# EAGLE library part 8PIN_DIP (library FixLib)
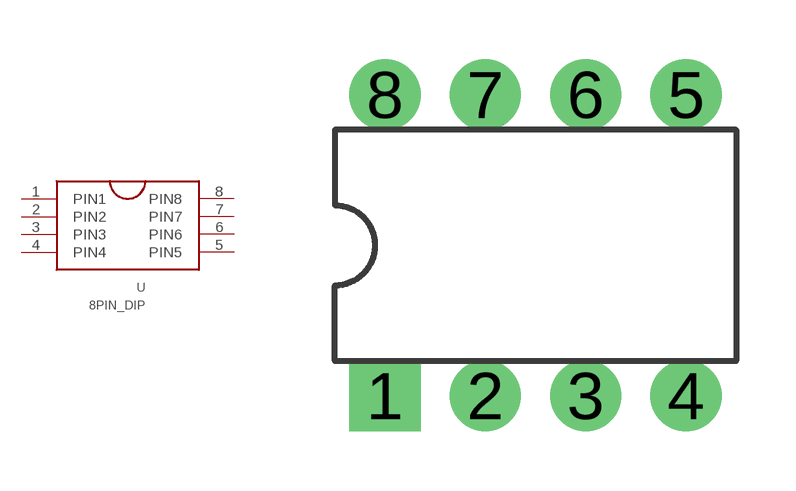
[diagram p1: symbol with the pads of DIL08; footprint DIL08]

Designator prefix -

## 8PIN_DIP  [DIL08]
1  PIN1
2  PIN2
3  PIN3
4  PIN4
5  PIN5
6  PIN6
7  PIN7
8  PIN8

## Footprint DIL08 (pad centres in mm)
Dual In Line Package
drill 1 pad 1.8 square: 1 -3.81,-3.81
drill 1 pad 1.8: 2 -1.27,-3.81; 3 1.27,-3.81; 4 3.81,-3.81; 5 3.81,3.81; 6 1.27,3.81; 7 -1.27,3.81; 8 -3.81,3.81